# Altium footprint library 模块.PcbLib: 14 footprints
Each footprint in its own frame and in the unit in brackets; x right, y up, seen from the top. Pads: shape width x height; smd on the part's side, far side on the other; paste and mask are expansions set on the pad; w line width, h text height; cw(c..) or ccw(c..) is an arc to the next point about the centre after c.
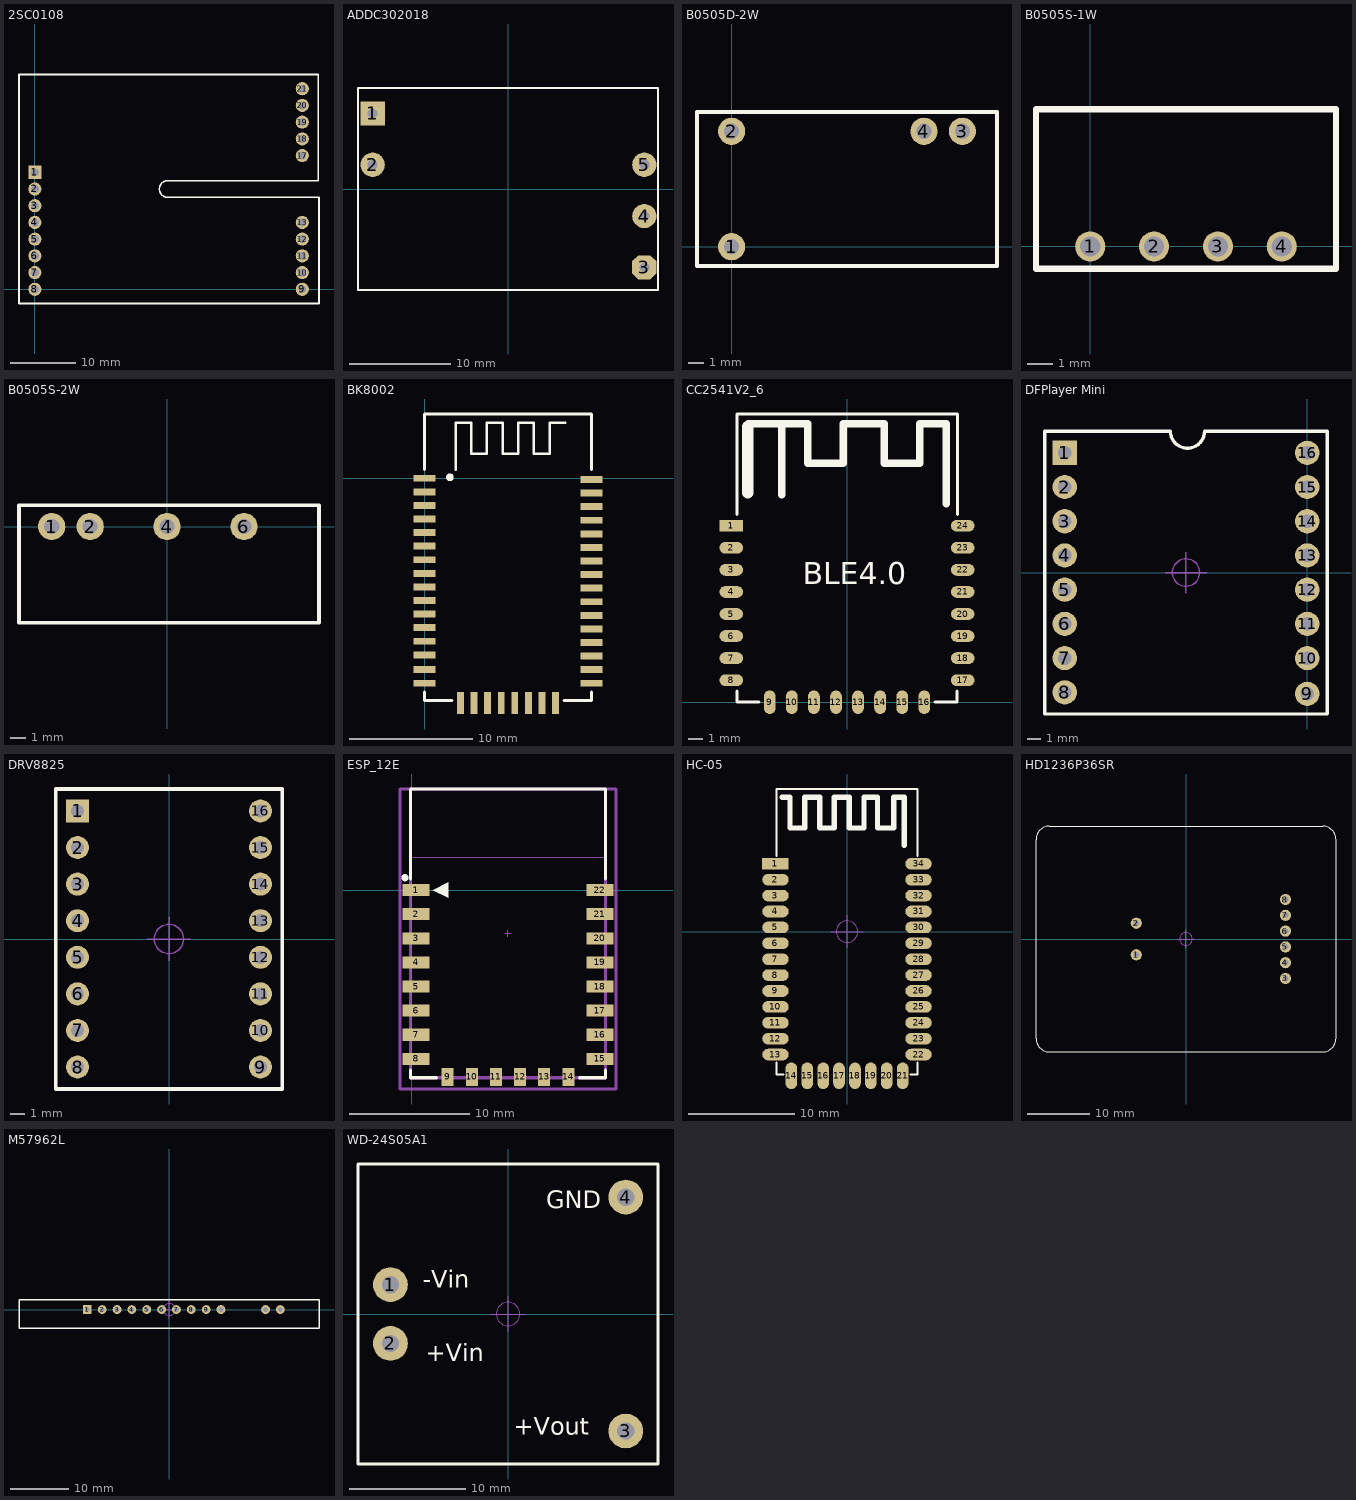
[diagram p0: the footprints below, top view; thin cyan lines are the x and y axes]

## 2SC0108 [mm] "45mm*34.29mm*16mm(长*宽*高)"
pads (18):
  rect 2x2 hole 1.2: 1(0,17.78)
  round 2 hole 1.2: 2(0,15.24) 3(0,12.7) 4(0,10.16) 5(0,7.62) 6(0,5.08) 7(0,2.54) 8(0,0) 9(40.64,0) 10(40.64,2.54) 11(40.64,5.08) 12(40.64,7.62) 13(40.64,10.16) 17(40.64,20.32) 18(40.64,22.86) 19(40.64,25.4) 20(40.64,27.94) 21(40.64,30.48)
Top Overlay:
  lines w0.254: -2.413,-2.159 -2.413,32.639 43.053,32.639 43.053,16.51 20.193,16.51 ccw(c20.193,15.24) 20.193,13.97 43.18,13.97 43.18,-2.159 -2.413,-2.159
3D body: height 16, standoff -5.93, extent -2.16,-1.9 42.84,32.39

## ADDC302018 [mm] "长宽高30*20*18（mm）"
pads (5):
  rect 2.4x2.4 hole 1: 1(-13.4,7.48)
  round 2.4 hole 1: 2(-13.4,2.4) 4(13.5,-2.68) 5(13.5,2.4)
  oct 2.4x2.4 hole 1: 3(13.5,-7.76)
Top Overlay:
  lines w0.203: -14.85,-10 -14.85,10 14.85,10 14.85,-10 -14.85,-10

## B0505D-2W [mm] "19.5mm*9.8mm*7.7mm(长*宽*高）"
pads (4):
  round 1.8 hole 1: 1(0,0) 2(0,7.62) 3(15.24,7.62) 4(12.7,7.62)
Top Overlay:
  lines w0.25: -2.286,-1.27 -2.286,8.89 17.526,8.89 17.526,-1.27 -2.286,-1.27
3D body: height 7.75, standoff -3.45, extent -2.13,-1.09 17.37,8.71

## B0505S-1W [mm] "11.68mm*6mm*9.65mm(长*宽*高）"
pads (4):
  round 1.2 hole 0.8: 1(0,0) 2(2.54,0) 3(5.08,0) 4(7.62,0)
Top Overlay:
  lines w0.25: -2.159,-0.889 -2.159,5.461 9.779,5.461 9.779,-0.889 -2.159,-0.889
3D body: height 9.7, standoff -3.45, extent -2.03,-0.701 9.65,5.3

## B0505S-2W [mm] "19.5mm*7.5mm*10mm(长*宽*高）"
pads (4):
  round 1.8 hole 1: 1(-7.62,0) 2(-5.08,0) 4(0,0) 6(5.08,0)
Top Overlay:
  lines w0.25: -9.779,-6.35 10.033,-6.35 10.033,1.397 -9.779,1.397 -9.779,-6.35
3D body: height 10.05, standoff -3.45, extent -9.62,-6.251 9.88,1.25

## BK8002 [mil]
pads (40):
  rect 70x22 smd: 1(0,0) 2(0,-43.31) 3(0,-86.61) 4(0,-129.92) 5(0,-173.23) 6(0,-216.54) 7(0,-259.84) 8(0,-303.15) 9(0,-346.46) 10(0,-389.76) 11(0,-433.07) 12(0,-476.38) 13(0,-519.68) 14(0,-562.99) 15(0,-610.24) 16(0,-653.54) 25(531.5,-653.54) 26(531.5,-610.24) 27(531.5,-566.93) 28(531.5,-523.62) 29(531.5,-480.31) 30(531.5,-437.01) 31(531.5,-393.7) 32(531.5,-350.39) 33(531.5,-307.09) 34(531.5,-263.78) 35(531.5,-220.47) 36(531.5,-177.17) 37(531.5,-133.86) 38(531.5,-90.55) 39(531.5,-47.24) 40(531.5,-3.94)
  rect 22x70 smd: 17(114.17,-716.54) 18(157.48,-716.54) 19(200.79,-716.54) 20(244.09,-716.54) 21(287.4,-716.54) 22(330.71,-716.54) 23(374.02,-716.54) 24(417.32,-716.54)
Top Overlay:
  circle w12: c80.76,3 r6
  lines w8: 98.43,27.56 98.43,177.56 148.43,177.56 148.43,77.56 198.43,77.56 198.43,177.56 248.43,177.56 248.43,77.56 298.43,77.56 298.43,177.56 348.43,177.56 348.43,77.56 398.43,77.56 398.43,177.56 448.43,177.56
  lines w10: 0,-681.1 0,-708.66 86.61,-708.66 ; 0,27.56 0,204.72 531.5,204.72 531.5,27.56 ; 444.88,-708.66 531.5,-708.66 531.5,-681.1
3D body: height 84.37, standoff -1.09, extent -0.78,-713.09 532.29,192.92

## CC2541V2_6 [mm] "蓝牙4.0透传模块"
pads (24):
  rect 1.6x0.8 smd: 1(-7.87,12)
  oval 1.6x0.8 smd: 2(-7.87,10.5) 3(-7.87,9) 4(-7.87,7.5) 5(-7.87,6) 6(-7.87,4.5) 7(-7.87,3) 8(-7.87,1.5) 17(7.87,1.5) 18(7.87,3) 19(7.87,4.5) 20(7.87,6) 21(7.87,7.5) 22(7.87,9) 23(7.87,10.5) 24(7.87,12)
  oval 0.8x1.6 smd: 9(-5.25,0) 10(-3.75,0) 11(-2.25,0) 12(-0.75,0) 13(0.75,0) 14(2.25,0) 15(3.75,0) 16(5.25,0)
Top Overlay:
  lines w0.203: -7.48,0.75 -7.48,0 -6,0 ; -7.48,12.75 -7.48,19.6 7.5,19.6 7.5,12.75 ; 6,0 7.48,0 7.48,0.75
  lines w0.508: -6.731,18.923 -4.445,18.923 ; -4.445,14.097 -4.445,18.923 ; 6.75,13.5 6.75,18.75 6.75,18.923 4.953,18.923 4.953,16.256 2.54,16.256 2.54,18.923 -0.254,18.923 -0.254,16.256 -2.667,16.256 -2.667,18.923 -4.445,18.923
  lines w0.762: -6.75,14.25 -6.75,18.75
  text "BLE4.0" at -3,7.5 h2.54
3D body: height 2.25, standoff 0.03, extent -7.48,-0.01 7.48,19.6

## DFPlayer Mini [mm] "长：21mm ， 宽： 21mm，高：6mm"
pads (16):
  rect 1.8x1.8 hole 1: 1(-18,8.89)
  round 1.8 hole 1: 2(-18,6.35) 3(-18,3.81) 4(-18,1.27) 5(-18,-1.27) 6(-18,-3.81) 7(-18,-6.35) 8(-18,-8.89) 9(0,-9) 10(0,-6.35) 11(0,-3.81) 12(0,-1.27) 13(0,1.27) 14(0,3.81) 15(0,6.35) 16(0,8.89)
Top Overlay:
  lines w0.25: -10.16,10.5 ccw(c-8.89,10.5) -7.62,10.5
  lines w0.254: -10.16,10.5 -19.5,10.5 -19.5,-10.5 1.5,-10.5 1.5,10.5 -7.62,10.5
Mechanical 15:
  circle w0.1: c-9,0 r1.016
  lines w0.1: -10.524,0 -7.476,0 ; -9,-1.524 -9,1.524
3D body: height 6.02, standoff -6, extent -19.5,-10.5 1.5,10.5

## DRV8825 [mm] "长:20.5mm，宽:15.5mm，高:5mm"
pads (16):
  rect 1.6x1.6 hole 0.9: 1(-6.35,8.89)
  round 1.6 hole 0.9: 2(-6.35,6.35) 3(-6.35,3.81) 4(-6.35,1.27) 5(-6.35,-1.27) 6(-6.35,-3.81) 7(-6.35,-6.35) 8(-6.35,-8.89) 9(6.35,-8.89) 10(6.35,-6.35) 11(6.35,-3.81) 12(6.35,-1.27) 13(6.35,1.27) 14(6.35,3.81) 15(6.35,6.35) 16(6.35,8.89)
Top Overlay:
  lines w0.254: -7.874,-10.414 -7.874,10.414 7.874,10.414 7.874,-10.414 -7.874,-10.414
Mechanical 15:
  circle w0.1: c0,0 r1.016
  lines w0.1: -1.524,0 1.524,0 ; 0,-1.524 0,1.524
3D body: height 5.71, standoff -5.82, extent -7.75,-10.25 7.75,10.25

## ESP_12E [mm] "ESP-12 Wi-Fi Module by AI-Thinker"
height 3.2
pads (22):
  rect 2.25x1 smd: 1(0.375,0) 2(0.375,-2) 3(0.375,-4) 4(0.375,-6) 5(0.375,-8) 6(0.375,-10) 7(0.375,-12) 8(0.375,-14) 15(15.625,-14) 16(15.625,-12) 17(15.625,-10) 18(15.625,-8) 19(15.625,-6) 20(15.625,-4) 21(15.625,-2) 22(15.625,0)
  rect 1x1.5 smd: 9(3,-15.5) 10(5,-15.5) 11(7,-15.5) 12(9,-15.5) 13(11,-15.5) 14(13,-15.5)
Top Overlay:
  circle w0.3: c-0.55,1.025 r0.15
  region: 1.77,0 3.04,-0.635 3.04,0.635
  lines w0.254: -0.084,-14.916 -0.084,-15.568 2.068,-15.568 ; -0.084,0.916 -0.084,8.371 16.084,8.371 16.084,0.916 ; 13.932,-15.568 16.084,-15.568 16.084,-14.916
Mechanical 13:
  lines w0.051: -0.127,2.727 -0.127,8.382 16.129,8.382 16.129,2.727 -0.127,2.727
  lines w0.254: -0.084,-15.568 16.084,-15.568 16.084,8.371 -0.084,8.371 -0.084,-15.568
  text "CUTOUT POLYGON" at 0.127,7.366 h0.25
  text "ANTENNA AREA" at 0.127,7.874 h0.25
Mechanical 15:
  lines w0.1: 7.746,-3.598 8.254,-3.598 ; 8,-3.852 8,-3.344
  lines w0.254: -0.975,-16.5 -0.975,8.371 16.975,8.371 16.975,-16.5 -0.975,-16.5
3D body: height 2.75, standoff 0.04, extent 0.001,-15.491 16.001,8.509

## HC-05 [mm] "串口蓝牙模块"
pads (34):
  rect 2.5x1.1 smd: 1(-6.75,6.403)
  oval 2.5x1.1 smd: 2(-6.75,4.903) 3(-6.75,3.403) 4(-6.75,1.903) 5(-6.75,0.403) 6(-6.75,-1.097) 7(-6.75,-2.597) 8(-6.75,-4.097) 9(-6.75,-5.597) 10(-6.75,-7.097) 11(-6.75,-8.597) 12(-6.75,-10.097) 13(-6.75,-11.597) 22(6.75,-11.597) 23(6.75,-10.097) 24(6.75,-8.597) 25(6.75,-7.097) 26(6.75,-5.597) 27(6.75,-4.097) 28(6.75,-2.597) 29(6.75,-1.097) 30(6.75,0.403) 31(6.75,1.903) 32(6.75,3.403) 33(6.75,4.903) 34(6.75,6.403)
  oval 1.1x2.5 smd: 14(-5.25,-13.597) 15(-3.75,-13.597) 16(-2.25,-13.597) 17(-0.75,-13.597) 18(0.75,-13.597) 19(2.25,-13.597) 20(3.75,-13.597) 21(5.25,-13.597)
Top Overlay:
  lines w0.203: -6.647,-12.37 -6.647,-13.487 -6.012,-13.487 ; -6.647,7.163 -6.647,13.462 6.637,13.462 6.637,7.163 ; 6.002,-13.487 6.637,-13.487 6.637,-12.37
  lines w0.508: -6.139,12.7 -5.377,12.7 -5.377,9.779 -3.98,9.779 -3.98,12.7 -2.583,12.7 -2.583,9.779 -1.186,9.779 -1.186,12.7 0.211,12.7 0.211,9.779 1.608,9.779 1.608,12.7 2.878,12.7 2.878,9.779 4.402,9.779 4.402,12.7 5.418,12.7 5.418,8.128
Mechanical 15:
  circle w0.1: c0,0.003 r1.016
  lines w0.1: -1.524,0.003 1.524,0.003 ; 0,-1.521 0,1.527
3D body: height 2.46, standoff -0.01, extent -6.52,-13.367 6.52,13.353

## HD1236P36SR [mm] "长：48mm，宽：36mm，高：23mm"
pads (8):
  round 1.8 hole 0.9: 1(-8.001,-2.54) 2(-8.001,2.54) 3(15.999,-6.35) 4(15.999,-3.81) 5(15.999,-1.27) 6(15.999,1.27) 7(15.999,3.81) 8(15.999,6.35)
Top Overlay:
  lines w0.2: -24.13,-16.002 -24.13,15.993 cw(c-21.962,15.993) -21.962,18.161 21.971,18.161 ; -24.13,-15.993 ccw(c-21.962,-15.993) -21.962,-18.161 ; -21.971,-18.161 21.971,-18.161 ; 21.962,-18.161 ccw(c21.962,-15.993) 24.13,-15.993 ; 21.962,18.161 cw(c21.962,15.993) 24.13,15.993 ; 24.13,-16.002 24.13,16.002
Mechanical 15:
  circle w0.1: c-0.001,0 r1.016
  lines w0.1: -1.525,0 1.523,0 ; -0.001,-1.524 -0.001,1.524
3D body: height 23.05, standoff -3.45, extent -24.001,-18 23.999,18

## M57962L [mm] "IGBT驱动模块"
pads (12):
  rect 1.5x1.5 hole 0.8: 1(-14.021,0)
  round 1.5 hole 0.8: 2(-11.481,0) 3(-8.941,0) 4(-6.401,0) 5(-3.861,0) 6(-1.321,0) 7(1.219,0) 8(3.759,0) 9(6.299,0) 10(8.839,0) 13(16.459,0) 14(18.999,0)
Top Overlay:
  lines w0.254: -25.705,-3.175 25.603,-3.175 25.603,1.651 24.079,1.651 -25.705,1.651 -25.705,-3.175
Mechanical 15:
  circle w0.1: c0,0 r1.016
  lines w0.1: -1.524,0 1.524,0 ; 0,-1.524 0,1.524
3D body: height 25, standoff -4.64, extent -25.5,-3 25.5,1.5

## WD-24S05A1 [mm] "3W-24V转5V模块"
pads (4):
  round 3 hole 1.5: 1(-10.15,2.538) 2(-10.15,-2.542) 3(10.17,-10.102) 4(10.17,10.098)
Top Overlay:
  lines w0.254: -12.954,-12.954 12.954,-12.954 12.954,12.954 -12.954,12.954 -12.954,-12.954
  text "+Vout" at 0.508,-10.414 h1.52
  text "GND" at 3.302,9.144 h1.52
  text "-Vin" at -7.366,2.286 h1.52
  text "+Vin" at -7.112,-4.064 h1.52
Mechanical 15:
  circle w0.1: c0,0 r1.016
  lines w0.1: -1.524,0 1.524,0 ; 0,-1.524 0,1.524
3D body: height 8.6, standoff -3.1, extent -12.75,-12.75 12.75,12.75